# EAGLE library part MX1508 (library _modules)
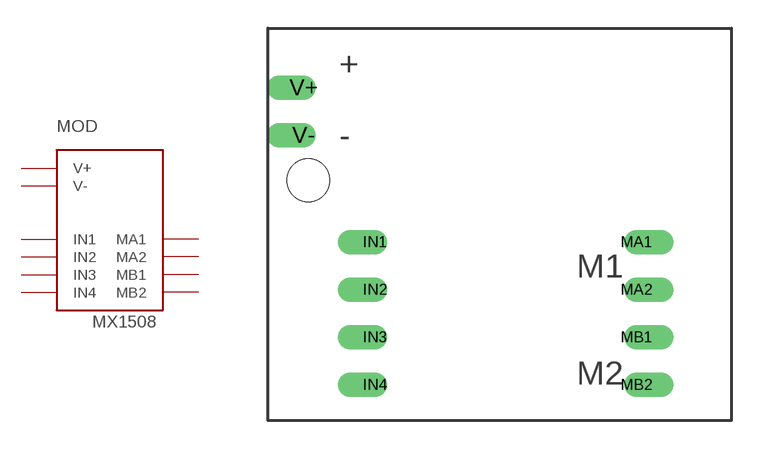
[diagram p1: symbol with the pads of MX1508; footprint MX1508]

Designator prefix MOD

## MX1508  [MX1508]
IN1  IN1
IN2  IN2
IN3  IN3
IN4  IN4
MA1  MA1
MA2  MA2
MB1  MB1
MB2  MB2
V+  V+
V-  V-

## Footprint MX1508 (pad centres in mm)
drill 0.813 offset: IN1 5.715,9.525; IN2 5.715,6.985; IN3 5.715,4.445; IN4 5.715,1.905; MA1 19.685,9.525; MA2 19.685,6.985; MB1 19.685,4.445; MB2 19.685,1.905; V+ 1.905,17.78; V- 1.905,15.24
hole 2.286 at 2.159,12.827